# EAGLE library part TPS61088 (library 32bits)
TPS61088 10-A Fully-Integrated Synchronous Boost Converter Input Voltage Range: 2.7 to 12 V Output Voltage Range: 4.5 to 12.6 V 10-A Switch Current Up to 91% Efficiency at VIN = 3.3 V, VOUT = 9 V, and IOUT = 3 A Mode Selection Between PFM Mode and ForcedPWM Mode at Light Load 1.0 μA Current into VIN Pin during Shutdown Resistor-Programmable Switch Peak Current Limit Adjustable Switching Frequency: 200 kHz to 2.2MHz Programmable Soft Start Output Overvoltage Protection at 13.2 V Cycle-by-Cycle Overcurrent Protection Thermal Shutdown 4.50-mm × 3.50-mm 20-Pin VQFN Package Description The TPS61088 is a high power density, fully integrated synchronous boost converter with a 11-mΩ power switch and a 13-mΩ rectifier switch to provide a high efficiency and small size solution in portable systems. The TPS61088 has wide input voltage range from 2.7 V to 12 V to support applications with single cell or two cell Lithium batteries. The device has 10-A switch current capability and is capable of providing an output voltage up to 12.6 V. The TPS61088 uses adaptive constant off-time peak current control topology to regulate the output voltage. In moderate to heavy load condition, the TPS61088 works in the pulse width modulation (PWM) mode. In light load condition, the device has two operation modes selected by the MODE pin. One is the pulse frequency modulation (PFM) mode to improve the efficiency and another one is the forced PWM mode to avoid application problems caused by low switching frequency. The switching frequency in the PWM mode is adjustable ranging from 200 kHz to 2.2 MHz by an external resistor. The TPS61088 also implements a programmable soft-start function and an adjustable switching peak current limit function. In addition, the device provides 13.2-V output overvoltage protection, cycle-by-cycle overcurrent protection, and thermal shutdown protection. The TPS61088 is available in a 4.50-mm × 3.50-mm 20-pin VQFN package.
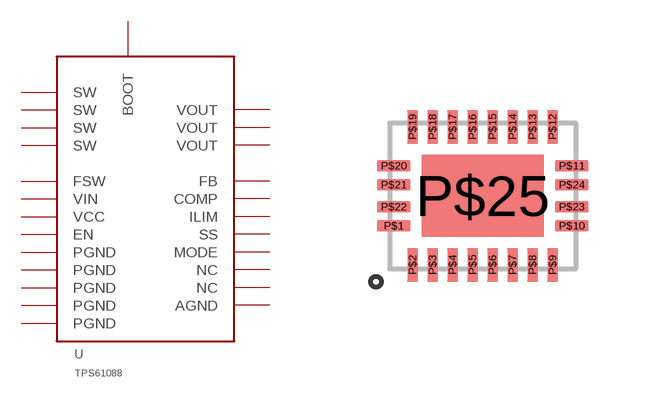
[diagram p0: symbol with the pads of VQFN20; footprint VQFN20]

Designator prefix U

## TPS61088VQFN20 (TYPE: boost)  [VQFN20]
P$1  VCC  pwr
P$2  EN  in
P$3  FSW  in
P$4  SW  in
P$5  SW  in
P$6  SW  in
P$7  SW  in
P$8  BOOT  out
P$9  VIN  in
P$10  SS  out
P$11  NC  nc
P$12  NC  nc
P$13  MODE  in
P$14  VOUT  pwr
P$15  VOUT  pwr
P$16  VOUT  pwr
P$17  FB  in
P$18  COMP  out
P$19  ILIM  out
P$20  AGND  pwr
P$21  PGND  pwr
P$22  PGND  pwr
P$23  PGND  pwr
P$24  PGND  pwr
P$25  PGND  pwr

## Footprint VQFN20 (pad centres in mm)
smd 0.85 x 0.28: P$1 -2.225,-0.75; P$10 2.225,-0.75; P$11 2.225,0.75; P$20 -2.225,0.75; P$21 -2.225,0.275; P$22 -2.225,-0.275; P$23 2.225,-0.275; P$24 2.225,0.275
smd 0.28 x 0.85: P$2 -1.75,-1.725; P$3 -1.25,-1.725; P$4 -0.75,-1.725; P$5 -0.25,-1.725; P$6 0.25,-1.725; P$7 0.75,-1.725; P$8 1.25,-1.725; P$9 1.75,-1.725; P$12 1.75,1.725; P$13 1.25,1.725; P$14 0.75,1.725; P$15 0.25,1.725; P$16 -0.25,1.725; P$17 -0.75,1.725; P$18 -1.25,1.725; P$19 -1.75,1.725
smd 3.05 x 2.05: P$25 0,0